# Altium schematic symbol library LM311.Schlib: 2 symbols
Pins are listed as number, name and electrical type; pins without a type are passive.

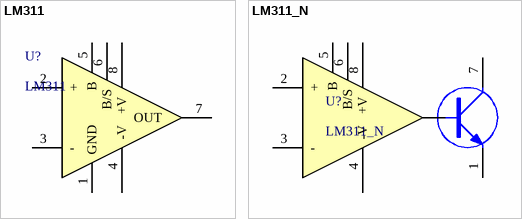
[diagram p0: symbols LM311 to LM311_N]

## LM311
designator U?
pins: 1 GND, 2 +, 3 -, 4 -V, 5 B, 6 B/S, 7 OUT   , 8 +V

## LM311_N
designator U?
pins: 1 EMIT OUT, 2 +, 3 -, 4 -V, 5 B, 6 B/S, 7 COL_OUT, 8 +V